# Altium integrated library SM05B-GHS-TB_LF__SN_.IntLib: 1 symbol
Pins are listed as number, name and electrical type; pins without a type are passive.

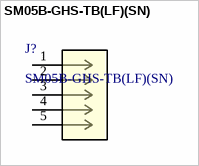
[diagram p0: symbol SM05B-GHS-TB(LF)(SN)]

## SM05B-GHS-TB(LF)(SN)
designator J?
No Description Available; Mfr_Name: JST; Copyright: Copyright (C) 2021 Ultra Librarian. All rights reserved.; Manufacturer_Part_Number: SM05B-GHS-TB(LF)(SN); RefDes: RefDes; Type: DEV
footprint CONN_SM05B-GHS-TB(LF)(SN)_JST
pins: 1, 2, 3, 4, 5